# Altium footprint library FINAL_PCB.PcbLib: 5 footprints
Each footprint in its own frame and in the unit in brackets; x right, y up, seen from the top. Pads: shape width x height; smd on the part's side, far side on the other; paste and mask are expansions set on the pad; w line width, h text height; cw(c..) or ccw(c..) is an arc to the next point about the centre after c.
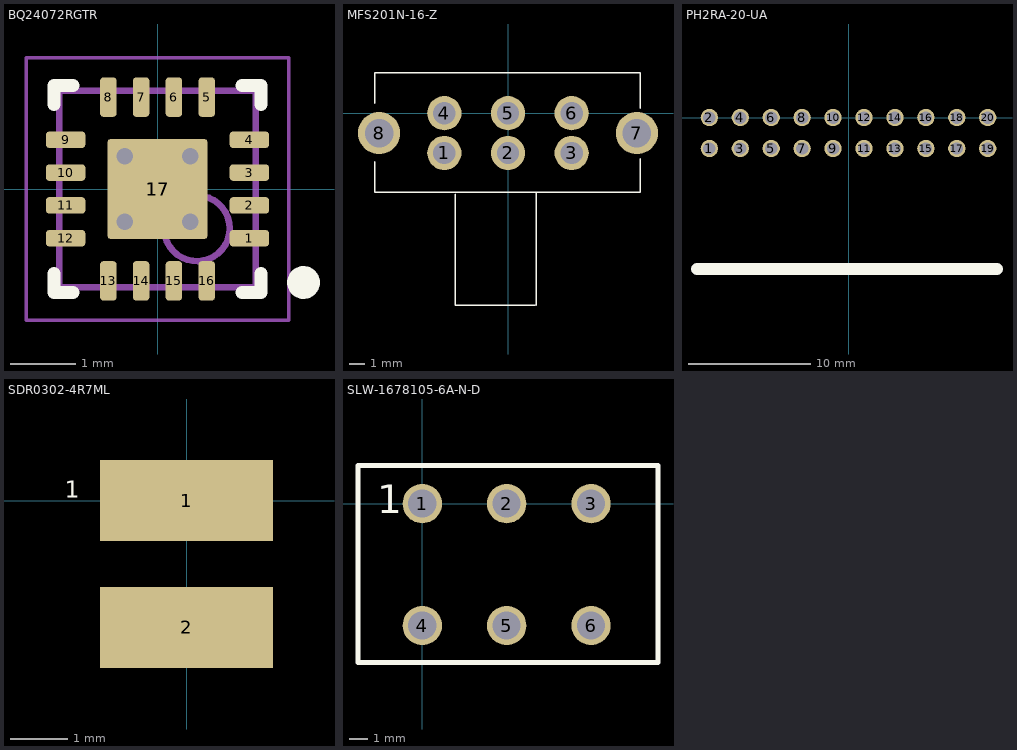
[diagram p0: the footprints below, top view; thin cyan lines are the x and y axes]

## BQ24072RGTR [mm] "Battery Charger"
pads (18):
  rrect40% 0.6x0.25 smd: 1(1.4,-0.75) 2(1.4,-0.25) 3(1.4,0.25) 4(1.4,0.75) 9(-1.4,0.75) 10(-1.4,0.25) 11(-1.4,-0.25) 12(-1.4,-0.75)
  rrect40% 0.25x0.6 smd: 5(0.75,1.4) 6(0.25,1.4) 7(-0.25,1.4) 8(-0.75,1.4) 13(-0.75,-1.4) 14(-0.25,-1.4) 15(0.25,-1.4) 16(0.75,-1.4)
  rrect6% 1.522x1.522 smd paste-0.85: 17(0,0)
  rrect6% 1.55x1.55 on Top Paste: 17(0,0)
via -0.5,0.5 diameter 0.508 hole 0.254
via -0.5,-0.5 diameter 0.508 hole 0.254
via 0.5,-0.5 diameter 0.508 hole 0.254
via 0.5,0.5 diameter 0.508 hole 0.254
Top Overlay:
  circle w0.25: c2.225,-1.425 r0.125
  lines w0.2: -1.575,-1.29 -1.575,-1.575 -1.29,-1.575 ; -1.575,1.29 -1.575,1.575 -1.29,1.575 ; 1.29,-1.575 1.575,-1.575 1.575,-1.29 ; 1.29,1.575 1.575,1.575 1.575,1.29
Top Solder:
  rectangle: 1.016,-0.889 1.778,0.889
  region: 0.889,1.016 0.889,1.778 -0.889,1.778 -0.889,1.016
  region: -1.016,0.889 -1.778,0.889 -1.778,-0.889 -1.016,-0.889
  region: -0.889,-1.016 -0.889,-1.778 0.889,-1.778 0.889,-1.016
Top 3D Body:
  circle w0.1: c0.6,-0.6 r0.5
  lines w0.1: -1.5,-1.5 1.5,-1.5 1.5,1.5 -1.5,1.5 -1.5,-1.5
Top Courtyard:
  lines w0.05: -2,-2 2,-2 2,2 -2,2 -2,-2
  lines w0.1: -0.5,0 0.5,0 ; 0,-0.5 0,0.5
3D body: height 1, standoff 0, extent -1.5,-1.5 1.5,1.5

## MFS201N-16-Z [mm] "Slide Switch Right Angle"
pads (8):
  round 2.15 hole 1.4: 1(-4,-2.5) 2(0,-2.5) 3(4,-2.5) 4(-4,0) 5(0,0) 6(4,0)
  round 2.65 hole 1.8: 7(8.1,-1.25) 8(-8.1,-1.25)
Top Overlay:
  lines w0.1: -8.382,-3.048 -8.382,-4.96 8.318,-4.96 8.318,-2.858 ; -8.382,0.635 -8.382,2.54 8.318,2.54 8.318,0.318 ; -3.302,-5.08 -3.302,-12.065 1.698,-12.065 ; 1.778,-12.065 1.778,-4.965

## PH2RA-20-UA [mm] "20-pin Board to Board Connector"
pads (20):
  round 1.42 hole 1.02 mask+0.2: 1(-11.43,-2.54) 2(-11.43,0) 3(-8.89,-2.54) 4(-8.89,0) 5(-6.35,-2.54) 6(-6.35,0) 7(-3.81,-2.54) 8(-3.81,0) 9(-1.27,-2.54) 10(-1.27,0) 11(1.27,-2.54) 12(1.27,0) 13(3.81,-2.54) 14(3.81,0) 15(6.35,-2.54) 16(6.35,0) 17(8.89,-2.54) 18(8.89,0) 19(11.43,-2.54) 20(11.43,0)
Top Overlay:
  lines w1: -12.446,-12.44 12.192,-12.44

## SDR0302-4R7ML [mm] "4.7uH Inductor"
pads (2):
  rect 3x1.4 smd: 1(0,0) 2(0,-2.2)
Top Overlay:
  text "1" at -2.109,0.05 h0.3

## SLW-1678105-6A-N-D [mm] "DPDT Slide Switch"
pads (6):
  round 2.1 hole 1.5: 1(0,0) 2(4.5,0) 3(9,0) 4(0,-6.5) 5(4.5,-6.5) 6(9,-6.5)
Top Overlay:
  lines w0.254: -3.429,-8.468 -3.429,2.032 12.571,2.032 12.571,-8.468 -3.429,-8.468
  text "1" at -2.413,-0.508 h1.52